# Altium schematic symbol library SLM0808.Schlib: 1 symbol
Pins are listed as number, name and electrical type; pins without a type are passive.

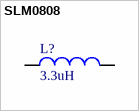
[diagram p0: symbol SLM0808]

## SLM0808
designator L?, comment 3.3uH
Power Inductor
pins: 1, 2